# Altium footprint library SOD3716X135N.PcbLib: 1 footprints
Each footprint in its own frame and in the unit in brackets; x right, y up, seen from the top. Pads: shape width x height; smd on the part's side, far side on the other; paste and mask are expansions set on the pad; w line width, h text height; cw(c..) or ccw(c..) is an arc to the next point about the centre after c.
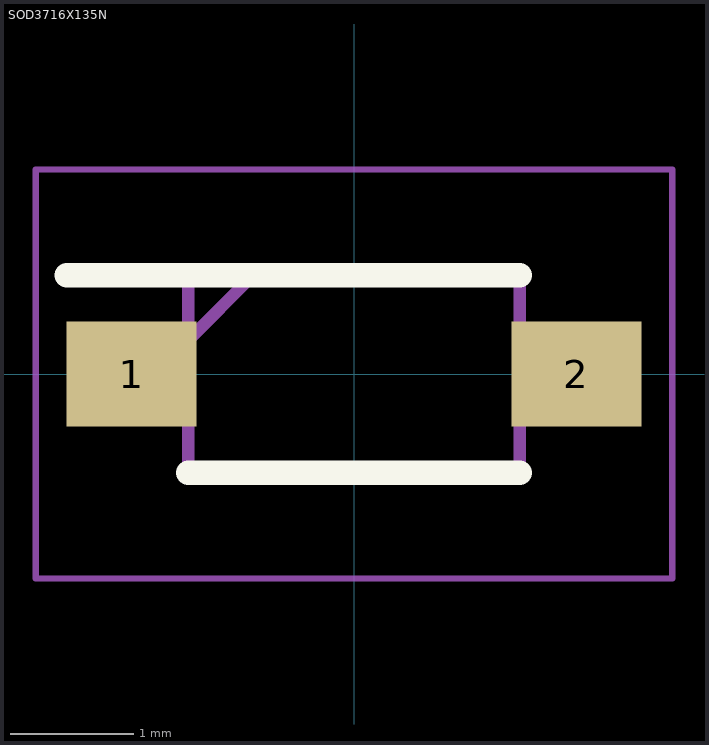
[diagram p0: the footprint, top view; thin cyan lines are the x and y axes]

## SOD3716X135N [mm]
pads (2):
  rect 1.05x0.85 smd: 1(-1.8,0) 2(1.8,0)
Top Overlay:
  lines w0.2: -2.325,0.8 1.34,0.8 ; -1.34,-0.8 1.34,-0.8
Mechanical 15:
  lines w0.1: -1.34,0.275 -0.815,0.8 ; -1.34,-0.8 1.34,-0.8 1.34,0.8 -1.34,0.8 -1.34,-0.8
Mechanical 20:
  lines w0.05: -2.575,-1.655 2.575,-1.655 2.575,1.655 -2.575,1.655 -2.575,-1.655